# EAGLE library part R-US-2818 (library shunt)
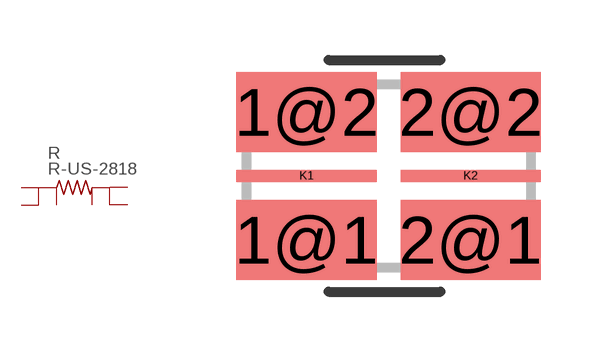
[diagram p0: symbol with the pads of VISHAY-2818; footprint VISHAY-2818]

Designator prefix R

## R-US-2818  [VISHAY-2818]
1@1  1  pas
1@2  1  pas
2@1  2  pas
2@2  2  pas
K1  K1  pas
K2  K2  pas

## Footprint VISHAY-2818 (pad centres in mm)
smd 3.5 x 2: 1@1 -2.055,-1.6; 1@2 -2.055,1.6; 2@1 2.045,-1.6; 2@2 2.045,1.6
smd 3.5 x 0.3: K1 -2.055,0; K2 2.045,0